# EAGLE library part BT111-VISUAL (library jetney-silabs-modules)
Bluetooth Smart Ready (dual-mode) USB HCI module - Bluetooth 4.0. BT111-A variant has an on-module ceramic chip antenna. BT111-A variant includes keepout/restrict area. Antenna edge of the module should be flush up against the edge of the PCB. See datasheet for variant layout details. The BT111 is a low cost and ultra small Bluetooth Smart Ready HCI module designed for applications where both Bluetooth classic and Bluetooth low energy connectivity are needed. The BT111 integrates a Bluetooth 4.0 dual mode radio, HCI software stack, USB interface and an antenna. It is compatible with Windows and Linux operating systems and Microsoft and BlueZ Bluetooth stacks and offers OEMs a fast and risk-free way to integrate Bluetooth 4.0 connectivity into their applications. http://www.bluegiga.com/en-US/products/bluetooth-4.0-modules/bt111-bluetooth--smart-ready-hci https://github.com/jrowberg/sf-oshw Last updated 2014-01-04 by Jeff Rowberg <jeff@rowberg.net>
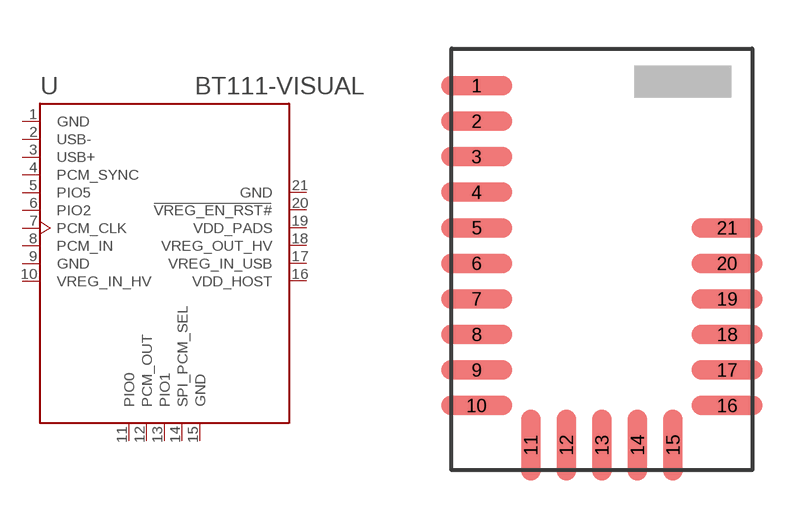
[diagram p20: symbol with the pads of BT111-A; footprint BT111-A]

Designator prefix U

## BT111-VISUAL-A  [BT111-A]
1  GND  pwr
2  USB-
3  USB+
4  PCM_SYNC
5  PIO5
6  PIO2
7  PCM_CLK
8  PCM_IN  in
9  GND  pwr
10  VREG_IN_HV  pwr
11  PIO0
12  PCM_OUT  out
13  PIO1
14  SPI_PCM_SEL  in
15  GND  pwr
16  VDD_HOST  pwr
17  VREG_IN_USB  pwr
18  VREG_OUT_HV  pwr
19  VDD_PADS  pwr
20  VREG_EN_RST#  in
21  GND  pwr

## Footprint BT111-A (pad centres in mm)
Bluetooth Smart Ready (dual-mode) USB HCI module - Bluetooth 4.0. BT111-A variant has an on-module ceramic chip antenna. BT111-A variant includes keepout/restrict area. Antenna edge of the module should be flush up against the edge of the PCB. See datasheet for variant layout details. The BT111 is a low cost and ultra small Bluetooth Smart Ready HCI module designed for applications where both Bluetooth classic and Bluetooth low energy connectivity are needed. The BT111 integrates a Bluetooth 4.0 dual mode radio, HCI software stack, USB interface and an antenna. It is compatible with Windows and Linux operating systems and Microsoft and BlueZ Bluetooth stacks and offers OEMs a fast and risk-free way to integrate Bluetooth 4.0 connectivity into their applications. http://www.bluegiga.com/en-US/products/bluetooth-4.0-modules/bt111-bluetooth--smart-ready-hci https://github.com/jrowberg/sf-oshw Last updated 2014-01-04 by Jeff Rowberg <jeff@rowberg.net>
smd 2.2 x 0.6: 1 -3.875,5.375; 2 -3.875,4.275; 3 -3.875,3.175; 4 -3.875,2.075; 5 -3.875,0.975; 6 -3.875,-0.125; 7 -3.875,-1.225; 8 -3.875,-2.325; 9 -3.875,-3.425; 10 -3.875,-4.525; 16 3.875,-4.525; 17 3.875,-3.425; 18 3.875,-2.325; 19 3.875,-1.225; 20 3.875,-0.125; 21 3.875,0.975
smd 0.6 x 2.2: 11 -2.2,-5.75; 12 -1.1,-5.75; 13 0,-5.75; 14 1.1,-5.75; 15 2.2,-5.75